# EAGLE library part DW01-P (library DW01-P)
hg Source: Datasheet <https://cdn.sparkfun.com/assets/learn_tutorials/2/5/1/DW01-P_DataSheet_V10.pdf>
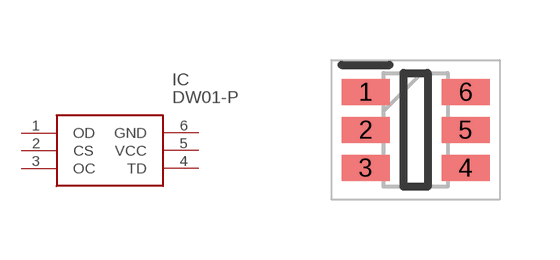
[diagram p0: symbol with the pads of SOT95P280X135-6N; footprint SOT95P280X135-6N]

Designator prefix IC

## DW01-P (Description: hg; Height: 1.35mm; Manufacturer_Name: Fortune Semiconductor Corporation; Manufacturer_Part_Number: DW01-P)  [SOT95P280X135-6N]
1  OD
2  CS
3  OC
4  TD
5  VCC
6  GND

## Footprint SOT95P280X135-6N (pad centres in mm)
DW01-P
smd 1.2 x 0.65: 1 -1.25,0.95; 2 -1.25,0; 3 -1.25,-0.95; 4 1.25,-0.95; 5 1.25,0; 6 1.25,0.95